# EAGLE library part BD1D50-MITOCHONDRIK-LV (library BD1D50-Mitochondrik-LV)
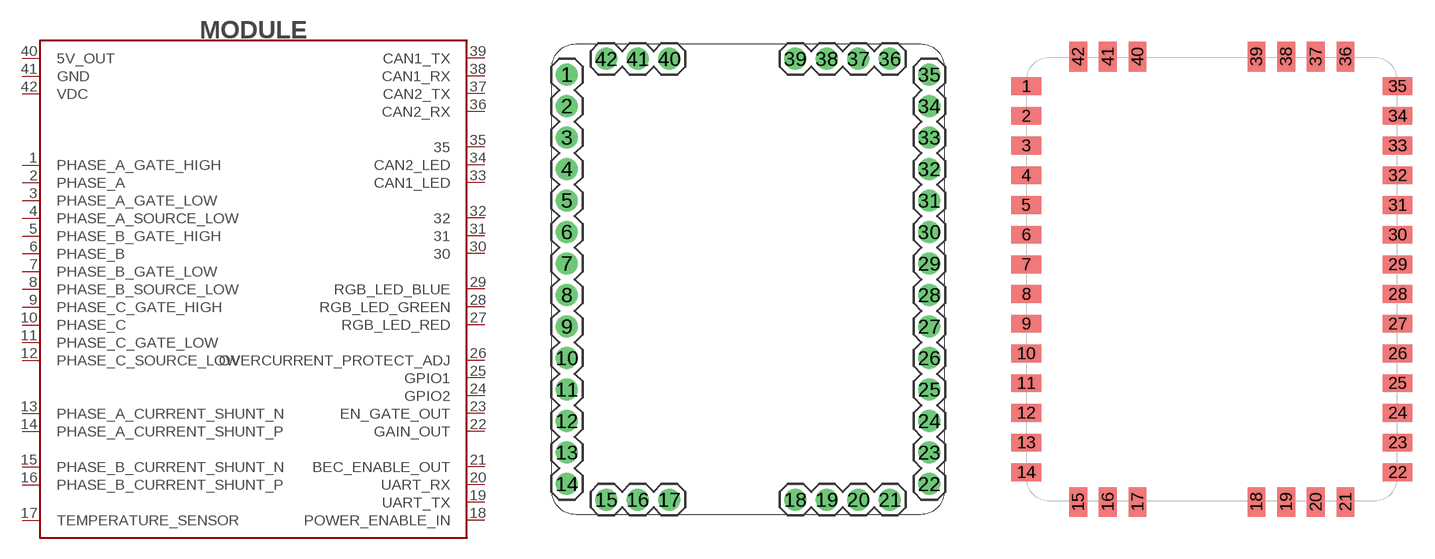
[diagram p0: symbol with the pads of BD1D50-MITOCHONDRIK-LV-TH; footprints BD1D50-MITOCHONDRIK-LV-TH, BD1D50-MITOCHONDRIK-LV-SMD]

Designator prefix MODULE

## BD1D50-MITOCHONDRIK-LV-TH (MANF: Zubax Robotics; MANF#: Mitochondrik)  [BD1D50-MITOCHONDRIK-LV-TH]
1  PHASE_A_GATE_HIGH  out
2  PHASE_A  in
3  PHASE_A_GATE_LOW  out
4  PHASE_A_SOURCE_LOW  in
5  PHASE_B_GATE_HIGH  out
6  PHASE_B  in
7  PHASE_B_GATE_LOW  out
8  PHASE_B_SOURCE_LOW  in
9  PHASE_C_GATE_HIGH  out
10  PHASE_C  in
11  PHASE_C_GATE_LOW  out
12  PHASE_C_SOURCE_LOW  in
13  PHASE_A_CURRENT_SHUNT_N  in
14  PHASE_A_CURRENT_SHUNT_P  in
15  PHASE_B_CURRENT_SHUNT_N  in
16  PHASE_B_CURRENT_SHUNT_P  in
17  TEMPERATURE_SENSOR  in
18  POWER_ENABLE_IN  in
19  UART_TX  out
20  UART_RX  in
21  BEC_ENABLE_OUT  out
22  GAIN_OUT  out
23  EN_GATE_OUT  out
24  GPIO2
25  GPIO1
26  OVERCURRENT_PROTECT_ADJ  in
27  RGB_LED_RED
28  RGB_LED_GREEN  out
29  RGB_LED_BLUE  out
30  30  nc
31  31  nc
32  32  nc
33  CAN1_LED
34  CAN2_LED  out
35  35  nc
36  CAN2_RX  in
37  CAN2_TX  out
38  CAN1_RX  in
39  CAN1_TX  out
40  5V_OUT  pwr
41  GND  pwr
42  VDC  pwr

## BD1D50-MITOCHONDRIK-LV-SMD  [BD1D50-MITOCHONDRIK-LV-SMD]
1  PHASE_A_CURRENT_SHUNT_P  in
2  PHASE_A_CURRENT_SHUNT_N  in
3  PHASE_C_SOURCE_LOW  in
4  PHASE_C_GATE_LOW  out
5  PHASE_C  in
6  PHASE_C_GATE_HIGH  out
7  PHASE_B_SOURCE_LOW  in
8  PHASE_B_GATE_LOW  out
9  PHASE_B  in
10  PHASE_B_GATE_HIGH  out
11  PHASE_A_SOURCE_LOW  in
12  PHASE_A_GATE_LOW  out
13  PHASE_A  in
14  PHASE_A_GATE_HIGH  out
15  VDC  pwr
16  GND  pwr
17  5V_OUT  pwr
18  CAN1_TX  out
19  CAN1_RX  in
20  CAN2_TX  out
21  CAN2_RX  in
22  35  nc
23  CAN2_LED  out
24  CAN1_LED
25  32  nc
26  31  nc
27  30  nc
28  RGB_LED_BLUE  out
29  RGB_LED_GREEN  out
30  RGB_LED_RED
31  OVERCURRENT_PROTECT_ADJ  in
32  GPIO1
33  GPIO2
34  EN_GATE_OUT  out
35  GAIN_OUT  out
36  BEC_ENABLE_OUT  out
37  UART_RX  in
38  UART_TX  out
39  POWER_ENABLE_IN  in
40  TEMPERATURE_SENSOR  in
41  PHASE_B_CURRENT_SHUNT_P  in
42  PHASE_B_CURRENT_SHUNT_N  in

## Footprint BD1D50-MITOCHONDRIK-LV-TH (pad centres in mm)
drill 0.8 pad 1.4: 1 -11.5,13; 2 -11.5,11; 3 -11.5,9; 4 -11.5,7; 5 -11.5,5; 6 -11.5,3; 7 -11.5,1; 8 -11.5,-1; 9 -11.5,-3; 10 -11.5,-5; 11 -11.5,-7; 12 -11.5,-9; 13 -11.5,-11; 14 -11.5,-13; 15 -9,-14; 16 -7,-14; 17 -5,-14; 18 3,-14; 19 5,-14; 20 7,-14; 21 9,-14; 22 11.5,-13; 23 11.5,-11; 24 11.5,-9; 25 11.5,-7; 26 11.5,-5; 27 11.5,-3; 28 11.5,-1; 29 11.5,1; 30 11.5,3; 31 11.5,5; 32 11.5,7; 33 11.5,9; 34 11.5,11; 35 11.5,13; 36 9,14; 37 7,14; 38 5,14; 39 3,14; 40 -5,14; 41 -7,14; 42 -9,14

## Footprint BD1D50-MITOCHONDRIK-LV-SMD (pad centres in mm)
smd 2 x 1.2: 1 -12.5,13; 2 -12.5,11; 3 -12.5,9; 4 -12.5,7; 5 -12.5,5; 6 -12.5,3; 7 -12.5,1; 8 -12.5,-1; 9 -12.5,-3; 10 -12.5,-5; 11 -12.5,-7; 12 -12.5,-9; 13 -12.5,-11; 14 -12.5,-13; 22 12.5,-13; 23 12.5,-11; 24 12.5,-9; 25 12.5,-7; 26 12.5,-5; 27 12.5,-3; 28 12.5,-1; 29 12.5,1; 30 12.5,3; 31 12.5,5; 32 12.5,7; 33 12.5,9; 34 12.5,11; 35 12.5,13
smd 1.2 x 2: 15 -9,-15; 16 -7,-15; 17 -5,-15; 18 3,-15; 19 5,-15; 20 7,-15; 21 9,-15; 36 9,15; 37 7,15; 38 5,15; 39 3,15; 40 -5,15; 41 -7,15; 42 -9,15